# EAGLE library part DIPS082 (library dips082)
Electronic Assembly 8x2 LCD displays w/w.o. backlit http://www.electronic-assembly.de/ Data sheet: http://www.electronic-assembly.de/deu/pdf/doma/dips082.pdf
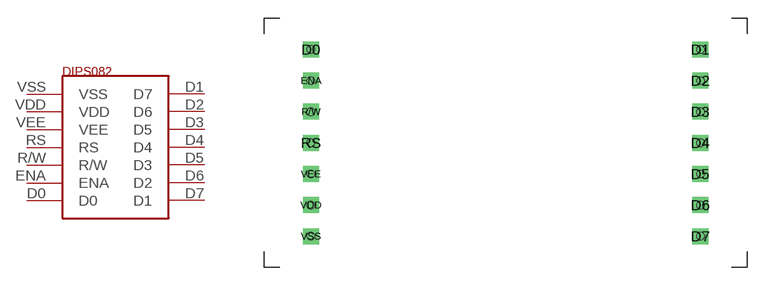
[diagram p0: symbol with the pads of DIPS082; footprint DIPS082]

Designator prefix -

## DIPS082  [DIPS082]
D0  D0
D1  D7
D2  D6
D3  D5
D4  D4
D5  D3
D6  D2
D7  D1
ENA  ENA
R/W  R/W
RS  RS
VDD  VDD
VEE  VEE
VSS  VSS

## Footprint DIPS082 (pad centres in mm)
drill 0.8 square: D0 0,6.35; D1 31.75,6.35; D2 31.75,3.81; D3 31.75,1.27; D4 31.75,-1.27; D5 31.75,-3.81; D6 31.75,-6.35; D7 31.75,-8.89; ENA 0,3.81; R/W 0,1.27; RS 0,-1.27; VDD 0,-6.35; VEE 0,-3.81; VSS 0,-8.89
hole 0.6 at 0,6.35
hole 0.6 at 0,3.81
hole 0.6 at 0,1.27
hole 0.6 at 0,-1.27
hole 0.6 at 0,-3.81
hole 0.6 at 0,-6.35
hole 0.6 at 0,-8.89
hole 0.6 at 31.75,-8.89
hole 0.6 at 31.75,-6.35
hole 0.6 at 31.75,-3.81
hole 0.6 at 31.75,-1.27
hole 0.6 at 31.75,1.27
hole 0.6 at 31.75,3.81
hole 0.6 at 31.75,6.35